# EAGLE library part 74HCT85N (library NXP_By_element14_Batch_1)
4-bit magnitude comparator
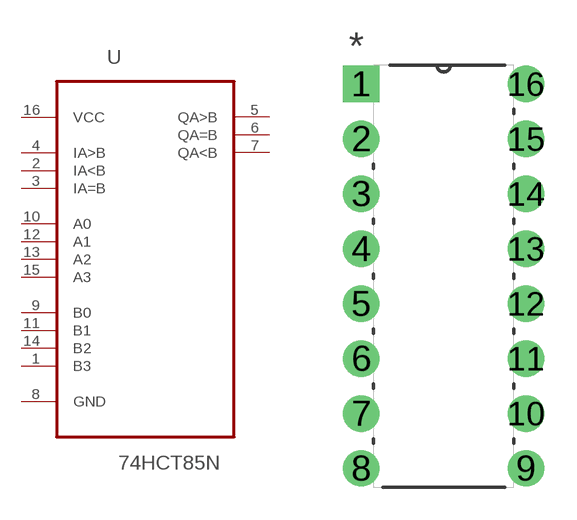
[diagram p219: symbol with the pads of DIP254P762X420-16; footprint DIP254P762X420-16]

Designator prefix U

## 74HCT85N (MPN: 74HCT85N; OC_FARNELL: 381925; OC_NEWARK: 07WX3648; PACKAGE: DIP-16; SUPPLIER: NXP)  [DIP254P762X420-16]
1  B3  in
2  IA<B  in
3  IA=B  in
4  IA>B  in
5  QA>B  out
6  QA=B  out
7  QA<B  out
8  GND  pas
9  B0  in
10  A0  in
11  B1  in
12  A1  in
13  A2  in
14  B2  in
15  A3  in
16  VCC  pwr

## Footprint DIP254P762X420-16 (pad centres in mm)
drill 1.118 square: 1 -7.62,17.78
drill 1.118: 2 -7.62,15.24; 3 -7.62,12.7; 4 -7.62,10.16; 5 -7.62,7.62; 6 -7.62,5.08; 7 -7.62,2.54; 8 -7.62,0; 9 0,0; 10 0,2.54; 11 0,5.08; 12 0,7.62; 13 0,10.16; 14 0,12.7; 15 0,15.24; 16 0,17.78